# Altium footprint library PCB.PcbLib: 23 footprints (part 1 of 2)
Each footprint in its own frame and in the unit in brackets; x right, y up, seen from the top. Pads: shape width x height; smd on the part's side, far side on the other; paste and mask are expansions set on the pad; w line width, h text height; cw(c..) or ccw(c..) is an arc to the next point about the centre after c.
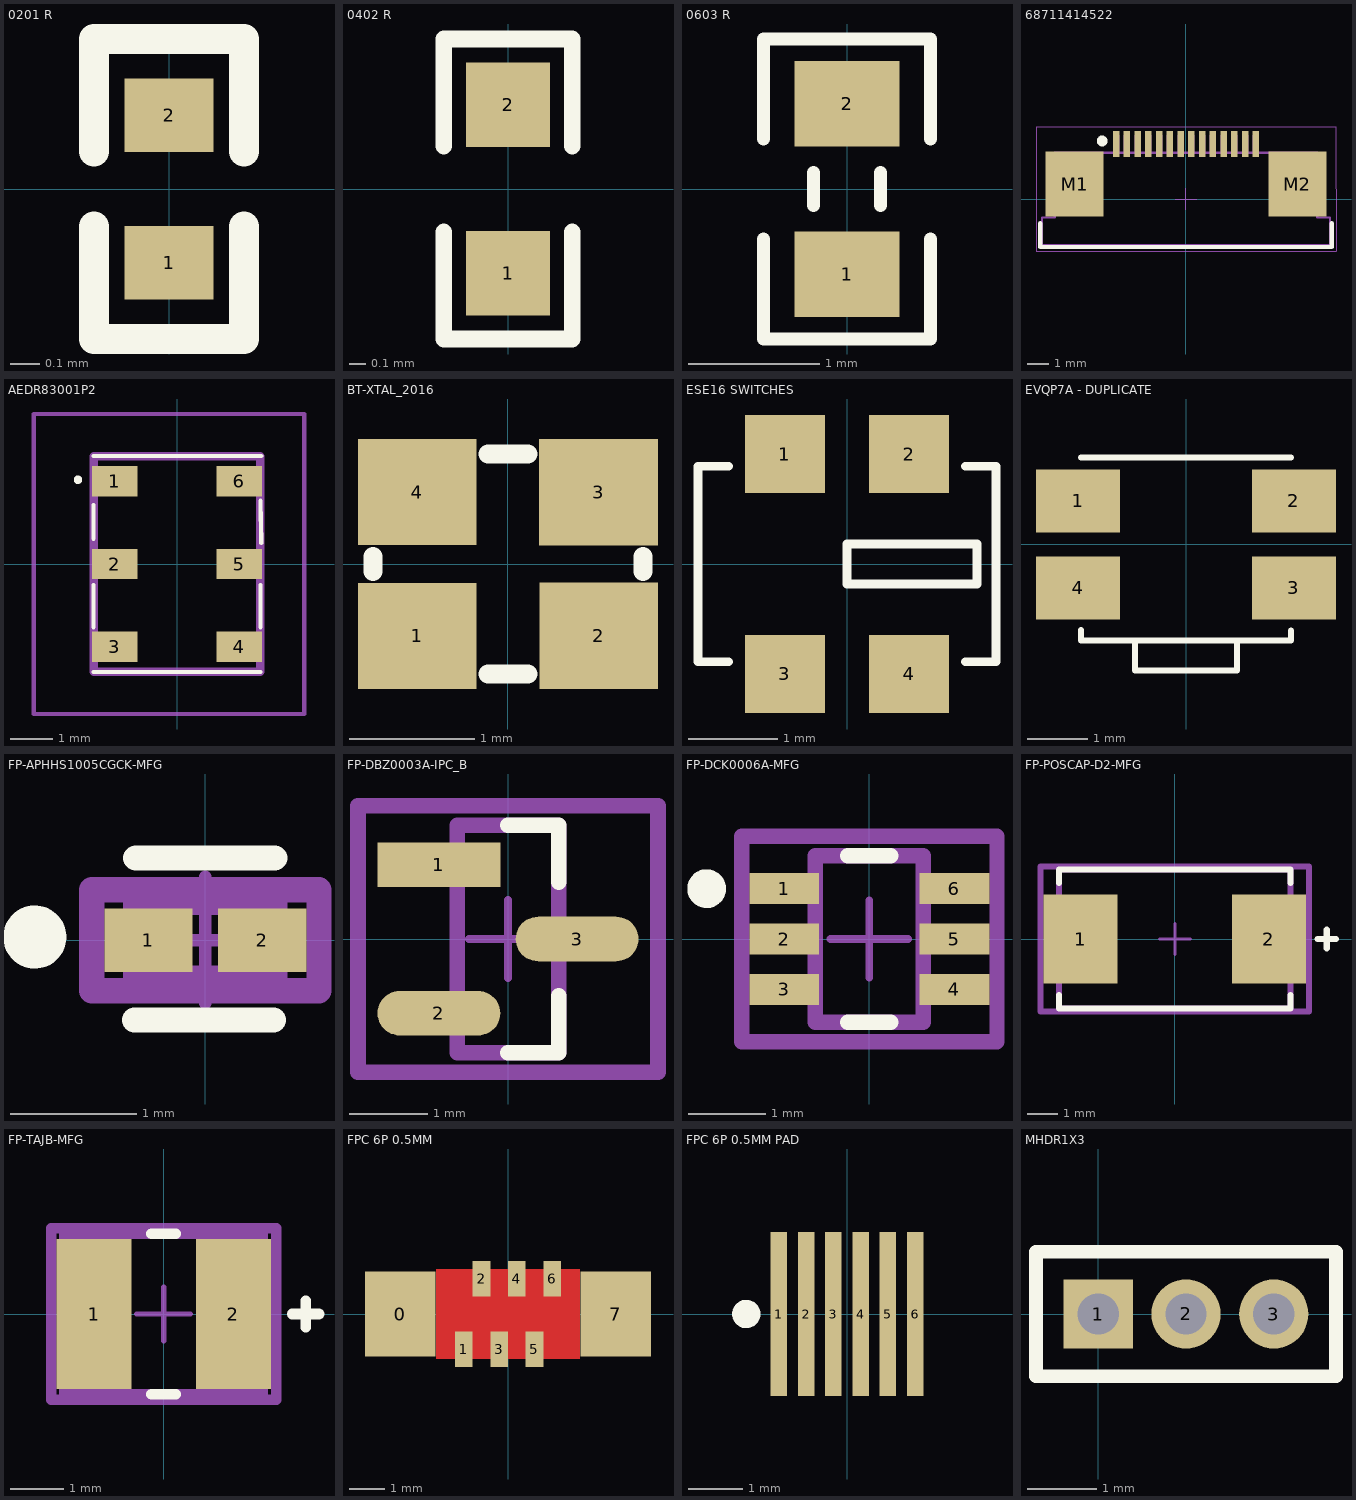
[diagram p0: the footprints below, top view; thin cyan lines are the x and y axes]

## 0201 R [mm]
pads (2):
  rect 0.3x0.25 smd mask+0.05: 1(0,-0.25) 2(0,0.25)
Top Overlay:
  lines w0.1: -0.254,-0.127 -0.254,-0.508 0.254,-0.508 0.254,-0.127 ; -0.254,0.127 -0.254,0.508 0.254,0.508 0.254,0.127
3D body "R0201.x_t": height 0.23, standoff 0, extent -0.15,-0.3 0.15,0.3

## 0402 R [mm]
pads (2):
  rect 0.5x0.5 smd mask+0.1: 1(0,-0.5) 2(0,0.5)
Top Overlay:
  lines w0.1: -0.381,-0.254 -0.381,-0.889 0.381,-0.889 0.381,-0.254 ; -0.381,0.254 -0.381,0.889 0.381,0.889 0.381,0.254
3D body "R0402.x_t": height 0.3, standoff 0, extent -0.25,-0.5 0.25,0.5

## 0603 R [mm]
pads (2):
  rect 0.8x0.65 smd mask+0.1: 1(0,-0.65) 2(0,0.65)
Top Overlay:
  lines w0.1: -0.635,-0.381 -0.635,-1.143 0.635,-1.143 0.635,-0.381 ; -0.635,0.381 -0.635,1.143 0.635,1.143 0.635,0.381 ; -0.254,-0.127 -0.254,0.127 ; 0.254,-0.127 0.254,0.127
3D body "R0603.STEP": height 0.4, standoff 0, extent -0.4,-0.8 0.4,0.8

## 68711414522 [mm]
pads (16):
  rect 0.3x1.2 smd: 1(-3.25,2.56) 2(-2.75,2.56) 3(-2.25,2.56) 4(-1.75,2.56) 5(-1.25,2.56) 6(-0.75,2.56) 7(-0.25,2.56) 8(0.25,2.56) 9(0.75,2.56) 10(1.25,2.56) 11(1.75,2.56) 12(2.25,2.56) 13(2.75,2.56) 14(3.25,2.56)
  rect 2.7x3 smd: M1(-5.18,0.7) M2(5.18,0.7)
Top Overlay:
  circle w0.25: c-3.9,2.7 r0.125
  lines w0.2: -6.775,-1.125 -6.775,-2.225 6.775,-2.225 6.775,-1.125
Top 3D Body:
  lines w0.1: -3.35,2.15 -3.35,2.95 -3.15,2.95 -3.15,2.15 ; -2.85,2.15 -2.85,2.95 -2.65,2.95 -2.65,2.15 ; -2.35,2.15 -2.35,2.95 -2.15,2.95 -2.15,2.15 ; -1.85,2.15 -1.85,2.95 -1.65,2.95 -1.65,2.15 ; -1.35,2.15 -1.35,2.95 -1.15,2.95 -1.15,2.15 ; -0.85,2.15 -0.85,2.95 -0.65,2.95 -0.65,2.15 ; -0.35,2.15 -0.35,2.95 -0.15,2.95 -0.15,2.15 ; 0.15,2.15 0.15,2.95 0.35,2.95 0.35,2.15 ; 0.65,2.15 0.65,2.95 0.85,2.95 0.85,2.15 ; 1.15,2.15 1.15,2.95 1.35,2.95 1.35,2.15 ; 1.65,2.15 1.65,2.95 1.85,2.95 1.85,2.15 ; 2.15,2.15 2.15,2.95 2.35,2.95 2.35,2.15 ; 2.65,2.15 2.65,2.95 2.85,2.95 2.85,2.15 ; 3.15,2.15 3.15,2.95 3.35,2.95 3.35,2.15 ; -6.7,-2.15 6.7,-2.15 6.7,-0.85 6.1,-0.85 6.1,2.15 -6.1,2.15 -6.1,-0.85 -6.7,-0.85 -6.7,-2.15
Top Courtyard:
  lines w0.05: -0.5,0 0.5,0 ; 0,-0.5 0,0.5 ; -6.975,-2.425 6.975,-2.425 6.975,3.36 -6.975,3.36 -6.975,-2.425
Top Designator:
  text ".Designator" at -7.498,-0.5 h1.5
Top Component Outline:
  lines w0.1: -3.35,2.15 -3.35,2.95 -3.15,2.95 -3.15,2.15 ; -2.85,2.15 -2.85,2.95 -2.65,2.95 -2.65,2.15 ; -2.35,2.15 -2.35,2.95 -2.15,2.95 -2.15,2.15 ; -1.85,2.15 -1.85,2.95 -1.65,2.95 -1.65,2.15 ; -1.35,2.15 -1.35,2.95 -1.15,2.95 -1.15,2.15 ; -0.85,2.15 -0.85,2.95 -0.65,2.95 -0.65,2.15 ; -0.35,2.15 -0.35,2.95 -0.15,2.95 -0.15,2.15 ; 0.15,2.15 0.15,2.95 0.35,2.95 0.35,2.15 ; 0.65,2.15 0.65,2.95 0.85,2.95 0.85,2.15 ; 1.15,2.15 1.15,2.95 1.35,2.95 1.35,2.15 ; 1.65,2.15 1.65,2.95 1.85,2.95 1.85,2.15 ; 2.15,2.15 2.15,2.95 2.35,2.95 2.35,2.15 ; 2.65,2.15 2.65,2.95 2.85,2.95 2.85,2.15 ; 3.15,2.15 3.15,2.95 3.35,2.95 3.35,2.15 ; -6.7,-2.15 -6.7,-0.85 -6.1,-0.85 -6.1,2.15 6.1,2.15 6.1,-0.85 6.7,-0.85 6.7,-2.15 -6.7,-2.15
3D body "68711414522.stp": height 2.1, standoff 0, extent -6.7,-2.15 6.7,2.95

## AEDR83001P2 [mm]
pads (6):
  rect 1.08x0.72 smd: 1(-1.48,1.96) 2(-1.48,0) 3(-1.48,-1.96) 4(1.48,-1.96) 5(1.48,0) 6(1.48,1.96)
Top Overlay:
  lines w0.1: -1.98,-2.56 1.98,-2.56 ; -1.98,-1.5 -1.98,-0.5 ; -1.98,0.6 -1.98,1.4 ; -1.98,2.56 2,2.56 ; 1.98,-1.5 1.98,-0.5 ; 1.98,1.5 2,0.5 ; -2.4,2 ccw(c-2.35,2) -2.3,2 ccw(c-2.35,2) -2.4,2
Mechanical 13:
  lines w0.2: -1.98,-2.56 -1.98,2.56 1.98,2.56 1.98,-2.56 -1.98,-2.56
Mechanical 15:
  lines w0.1: -3.4,-3.56 -3.4,3.56 3.02,3.56 3.02,-3.56 -3.4,-3.56
3D body "AEDR-8300-1P2.stp": height 1.88, standoff 0, extent -1.98,-2.56 1.98,2.56

## BT-XTAL_2016 [mm]
pads (4):
  rect 0.95x0.85 smd: 1(-0.725,-0.575) 2(0.725,-0.575) 3(0.725,0.575) 4(-0.725,0.575)
Top Overlay:
  lines w0.152: -1.08,-0.06 -1.08,0.06 ; -0.16,-0.88 0.16,-0.88 ; -0.16,0.88 0.16,0.88 ; 1.08,-0.06 1.08,0.06

## ESE16 SWITCHES [mm]
pads (4):
  rect 0.9x0.875 smd: 1(-0.7,1.238) 2(0.7,1.238) 3(-0.7,-1.238) 4(0.7,-1.238)
Top Overlay:
  lines w0.1: -1.333,-1.1 -1.675,-1.1 -1.675,1.1 -1.333,1.1 ; 1.333,-1.1 1.675,-1.1 1.675,1.1 1.333,1.1 ; 0,-0.225 0,0.225 1.46,0.225 1.46,-0.225 0,-0.225
3D body "ESE16J001.step": height 2.47, standoff -0.01, extent -1.675,-1.274 1.675,1.274

## EVQP7A - DUPLICATE [mm]
pads (4):
  rect 1.4x1.05 smd: 1(-1.8,0.725) 2(1.8,0.725) 3(1.8,-0.725) 4(-1.8,-0.725)
Top Overlay:
  lines w0.1: -1.75,-1.425 -1.75,-1.6 1.75,-1.6 1.75,-1.432 ; -1.75,1.45 1.75,1.45 ; -0.85,-1.612 -0.85,-2.1 0.85,-2.1 0.85,-1.626
3D body "EVQP7-LC-01P.STEP": height 1.5, standoff -0.35, extent -2.35,-2.163 2.35,1.531

## FP-APHHS1005CGCK-MFG [mm]
pads (2):
  rect 0.7x0.5 smd paste+0 mask+0: 1(-0.45,0) 2(0.45,0)
Top Overlay:
  circle w0.25: c-1.35,0.025 r0.125
  lines w0.2: -0.561,-0.631 0.539,-0.631 ; -0.55,0.65 0.55,0.65
Top 3D Body:
  lines w0.2: -0.55,-0.3 -0.55,0.3 0.55,0.3 0.55,-0.3 -0.55,-0.3
Top Courtyard:
  lines w0.2: -0.9,-0.4 -0.9,0.4 0.9,0.4 0.9,-0.4 -0.9,-0.4
Top Assembly:
  lines w0.2: -0.9,-0.4 -0.9,0.4 0.9,0.4 0.9,-0.4 -0.9,-0.4
Top Component Center:
  lines w0.1: -0.5,0 0.5,0 ; 0,-0.5 0,0.5
3D body "Diode_Kingbright_APHHS1005CGCK_eec.STEP": height 0.25, standoff 0, extent -0.9,-0.4 0.9,0.4

## FP-DBZ0003A-IPC_B [mm]
pads (3):
  rect 1.574x0.572 smd paste+0 mask+0: 1(-0.885,0.95)
  rrect100% 1.574x0.572 smd paste+0 mask+0: 2(-0.885,-0.95) 3(0.885,0)
Top Overlay:
  lines w0.2: 0,-1.46 0.65,-1.46 0.65,-0.73 ; 0,1.46 0.65,1.46 0.65,0.73
Top 3D Body:
  lines w0.2: -0.65,-1.46 0.65,-1.46 0.65,1.46 -0.65,1.46 -0.65,-1.46
Top Courtyard:
  lines w0.2: -1.922,-1.71 1.922,-1.71 1.922,1.71 -1.922,1.71 -1.922,-1.71
Top Assembly:
  lines w0.2: -1.922,-1.71 1.922,-1.71 1.922,1.71 -1.922,1.71 -1.922,-1.71
Top Component Center:
  lines w0.1: -0.5,0 0.5,0 ; 0,-0.5 0,0.5
3D body "IC_Texas_Instruments_DRV5032FADBZR_eec.STEP": height 0.25, standoff 0, extent -1.922,-1.71 1.922,1.71

## FP-DCK0006A-MFG [mm]
pads (6):
  rect 0.9x0.4 smd paste-1000 mask+0: 1(-1.1,0.65) 2(-1.1,0) 3(-1.1,-0.65) 4(1.1,-0.65) 5(1.1,0) 6(1.1,0.65)
Top Overlay:
  circle w0.25: c-2.1,0.65 r0.125
  lines w0.2: -0.275,-1.075 0.275,-1.075 ; -0.275,1.075 0.275,1.075
Top Paste:
  rectangle: 0.675,-0.825 1.525,-0.475
  rectangle: 0.675,-0.175 1.525,0.175
  rectangle: 0.675,0.475 1.525,0.825
  rectangle: -1.525,-0.825 -0.675,-0.475
  rectangle: -1.525,-0.175 -0.675,0.175
  rectangle: -1.525,0.475 -0.675,0.825
Top 3D Body:
  lines w0.2: -0.7,-1.075 -0.7,1.075 0.7,1.075 0.7,-1.075 -0.7,-1.075
Top Courtyard:
  lines w0.2: -1.65,-1.325 -1.65,1.325 1.65,1.325 1.65,-1.325 -1.65,-1.325
Top Assembly:
  lines w0.2: -1.65,-1.325 -1.65,1.325 1.65,1.325 1.65,-1.325 -1.65,-1.325
  text ".Designator" at 0,0.188 h1
Top Component Center:
  lines w0.1: -0.5,0 0.5,0 ; 0,-0.5 0,0.5
3D body "IC_Texas_Instruments_INA213AIDCKR_eec.STEP": height 0.25, standoff 0, extent -1.65,-1.325 1.65,1.325

## FP-POSCAP-D2-MFG [mm]
pads (2):
  rect 2.4x2.9 smd paste+0 mask+0: 1(-3.05,0) 2(3.05,0)
Top Overlay:
  lines w0.2: -3.75,-1.825 -3.75,-2.25 3.75,-2.25 3.75,-1.825 ; -3.75,1.825 -3.75,2.25 3.75,2.25 3.75,1.825 ; 4.625,0 5.225,0 ; 4.925,-0.3 4.925,0.3
Top 3D Body:
  lines w0.2: -3.75,-2.25 -3.75,2.25 3.75,2.25 3.75,-2.25 -3.75,-2.25
Top Courtyard:
  lines w0.2: -4.35,-2.35 -4.35,2.35 4.35,2.35 4.35,-2.35 -4.35,-2.35
Top Assembly:
  lines w0.2: -4.35,-2.35 -4.35,2.35 4.35,2.35 4.35,-2.35 -4.35,-2.35
  text ".Designator" at 0,0 h1
Top Component Center:
  lines w0.1: -0.5,0 0.5,0 ; 0,-0.5 0,0.5
3D body "Cap_Panasonic_16TDC100MYF_eec.STEP": height 0.25, standoff 0, extent -4.35,-2.35 4.35,2.35

## FP-TAJB-MFG [mm]
pads (2):
  rect 1.4x2.8 smd paste+0 mask+0: 1(-1.3,0) 2(1.3,0)
Top Overlay:
  lines w0.2: -0.225,-1.5 0.225,-1.5 ; -0.225,1.5 0.225,1.5 ; 2.4,0 2.9,0 ; 2.65,-0.25 2.65,0.25
Top 3D Body:
  lines w0.2: -1.85,-1.5 -1.85,1.5 1.85,1.5 1.85,-1.5 -1.85,-1.5
Top Courtyard:
  lines w0.2: -2.1,-1.6 -2.1,1.6 2.1,1.6 2.1,-1.6 -2.1,-1.6
Top Assembly:
  lines w0.2: -2.1,-1.6 -2.1,1.6 2.1,1.6 2.1,-1.6 -2.1,-1.6
  text ".Designator" at 0,0 h1
Top Component Center:
  lines w0.1: -0.5,0 0.5,0 ; 0,-0.5 0,0.5
3D body "Cap_AVX_TAJB335M035RNJ_eec.STEP": height 0.25, standoff 0, extent -2.1,-1.6 2.1,1.6

## FPC 6P 0.5MM [mm]
pads (8):
  rect 2x2.4 smd: 0(-3.05,0) 7(3.05,0)
  rect 0.5x1 smd: 1(-1.25,-1) 2(-0.75,1) 3(-0.25,-1) 4(0.25,1) 5(0.75,-1) 6(1.25,1)
Top Layer:
  pour cut-out: -2.032,1.27 -2.032,-1.27 2.032,-1.27 2.032,1.27
3D body "FPC_0-5_6P.STEP": height 4.4, standoff 0, extent -4.3,-1.524 4.3,1.476

## FPC 6P 0.5MM PAD [mm]
pads (6):
  rect 0.3x3 smd mask+0.051: 1(-1.25,0) 2(-0.75,0) 3(-0.25,0) 4(0.25,0) 5(0.75,0) 6(1.25,0)
Top Overlay:
  circle w0.254: c-1.847,0 r0.132

## MHDR1X3 [mm]
pads (3):
  rect 1x1 hole 0.6: 1(0,0)
  round 1 hole 0.6: 2(1.27,0) 3(2.54,0)
Top Overlay:
  lines w0.2: -0.9,-0.9 3.44,-0.9 3.44,0.9 -0.9,0.9 -0.9,-0.9